# Altium schematic symbol library TC2030.SchLib: 1 symbol
Pins are listed as number, name and electrical type; pins without a type are passive.

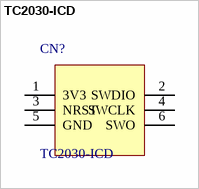
[diagram p0: symbol TC2030-ICD]

## TC2030-ICD
designator CN?  (no BOM)
footprint TC2030-MCP-NL (Conector ICD en placa)
footprint TC2030-MCP (Conector ICD en placa)
pins: 1 3V3, 2 SWDIO, 3 NRST, 4 SWCLK, 5 GND, 6 SWO